# Altium schematic symbol library TXS02612.SchLib: 1 symbol
Pins are listed as number, name and electrical type; pins without a type are passive.

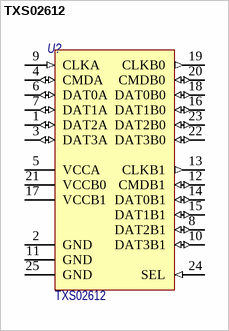
[diagram p0: symbol TXS02612]

## TXS02612
designator U?
SDIO Port Expander with Voltage-Level Translation; Потребление, Вт: 0.001; Назначение: SDIO Port Expander with Voltage-Level Translation; Наименование: TXS02612
footprint QFN50P400X400X80_HS-25N (QFN, 24-Leads, Body 4,00x4,00mm, Pitch 0,50mm, Thermal Pad 2,45x2,45mm, IPC Medium Density)
pins: 1 DAT2A (io), 2 GND (power), 3 DAT3A (io), 4 CMDA (io), 5 VCCA (power), 6 DAT0A (io), 7 DAT1A (io), 8 DAT2B1 (io), 9 CLKA (in), 10 DAT3B1 (io), 11 GND (power), 12 CMDB1 (io), 13 CLKB1 (out), 14 DAT0B1 (io), 15 DAT1B1 (io), 16 DAT1B0 (io), 17 VCCB1 (power), 18 DAT0B0 (io), 19 CLKB0 (out), 20 CMDB0 (io), 21 VCCB0 (power), 22 DAT3B0 (io), 23 DAT2B0 (io), 24 SEL (in), 25 GND (power)